# Altium footprint library PcbLib1.PcbLib: 3 footprints
Each footprint in its own frame and in the unit in brackets; x right, y up, seen from the top. Pads: shape width x height; smd on the part's side, far side on the other; paste and mask are expansions set on the pad; w line width, h text height; cw(c..) or ccw(c..) is an arc to the next point about the centre after c.
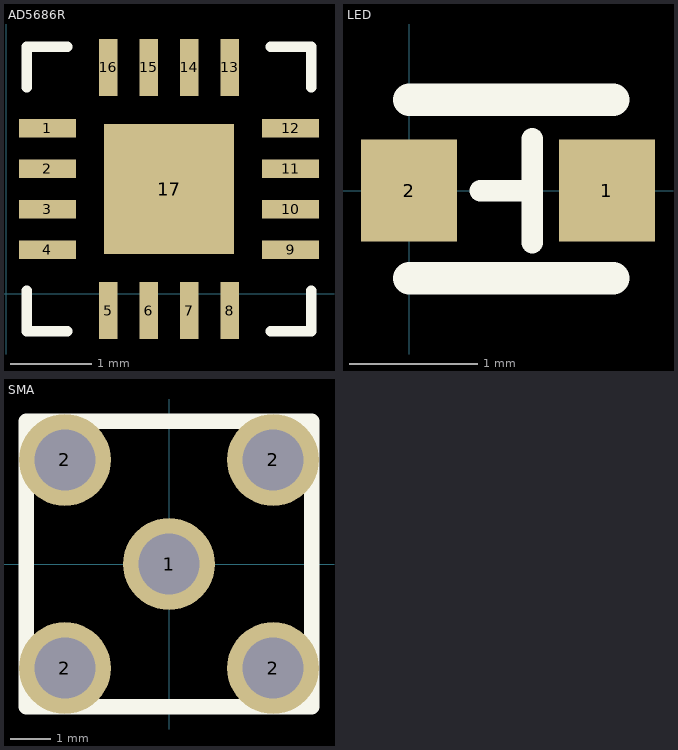
[diagram p0: the footprints below, top view; thin cyan lines are the x and y axes]

## AD5686R [mm]
pads (17):
  rect 0.7x0.23 smd: 1(0.508,2.044) 2(0.508,1.544) 3(0.508,1.044) 4(0.508,0.544) 9(3.508,0.544) 10(3.508,1.044) 11(3.508,1.544) 12(3.508,2.044)
  rect 0.23x0.7 smd: 5(1.258,-0.206) 6(1.758,-0.206) 7(2.258,-0.206) 8(2.758,-0.206) 13(2.758,2.794) 14(2.258,2.794) 15(1.758,2.794) 16(1.258,2.794)
  rect 1.6x1.6 smd: 17(2.008,1.294)
Top Overlay:
  lines w0.127: 0.254,0.04 0.254,-0.46 0.754,-0.46 ; 0.254,2.548 0.254,3.048 0.754,3.048 ; 3.262,-0.46 3.762,-0.46 3.762,0.04 ; 3.262,3.048 3.762,3.048 3.762,2.548

## LED [mm]
pads (2):
  rect 0.75x0.8 smd: 1(1.55,0) 2(0,0)
Top Overlay:
  lines w0.17: 0.559,0 0.965,0 ; 0.965,-0.406 0.965,0.406
  lines w0.254: 0,-0.686 1.6,-0.686 ; 0,0.711 1.6,0.711

## SMA [mm]
pads (5):
  round 2.25 hole 1.5: 1(0,0) 2(-2.55,-2.55) 2(-2.55,2.55) 2(2.55,-2.55) 2(2.55,2.55)
Top Overlay:
  lines w0.381: -3.5,-3.5 -3.5,3.5 3.5,3.5 3.5,-3.5 -3.5,-3.5
3D body "SMA.step": height 10, standoff -2.8, extent -3.5,-3.5 3.5,11.6